# Altium footprint library SMD-7050_4P.PcbLib: 1 footprints
Each footprint in its own frame and in the unit in brackets; x right, y up, seen from the top. Pads: shape width x height; smd on the part's side, far side on the other; paste and mask are expansions set on the pad; w line width, h text height; cw(c..) or ccw(c..) is an arc to the next point about the centre after c.
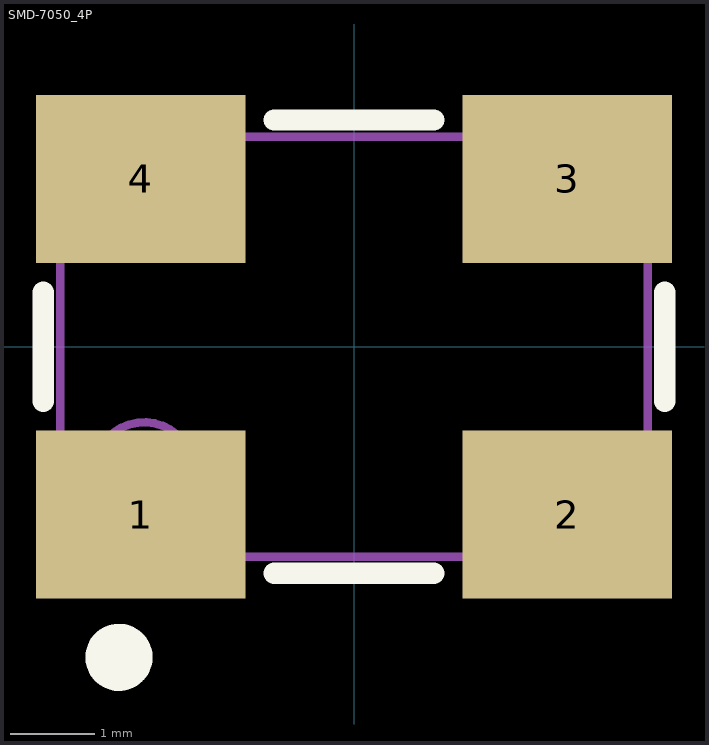
[diagram p0: the footprint, top view; thin cyan lines are the x and y axes]

## SMD-7050_4P [mm]
pads (4):
  rect 2.5x2 smd: 1(-2.54,-2) 2(2.54,-2) 3(2.54,2) 4(-2.54,2)
Top Overlay:
  circle w0.4: c-2.8,-3.7 r0.2
  lines w0.254: -3.7,-0.65 -3.7,0.65 ; -0.95,-2.7 0.95,-2.7 ; -0.95,2.7 0.95,2.7 ; 3.7,-0.65 3.7,0.65
Mechanical 13:
  circle w0.1: c-2.5,-1.5 r0.6
  lines w0.1: -3.5,-2.5 3.5,-2.5 3.5,2.5 -3.5,2.5 -3.5,-2.5